# Altium footprint library TSW-103-07-T-D_X1.PcbLib: 1 footprints
Each footprint in its own frame and in the unit in brackets; x right, y up, seen from the top. Pads: shape width x height; smd on the part's side, far side on the other; paste and mask are expansions set on the pad; w line width, h text height; cw(c..) or ccw(c..) is an arc to the next point about the centre after c.
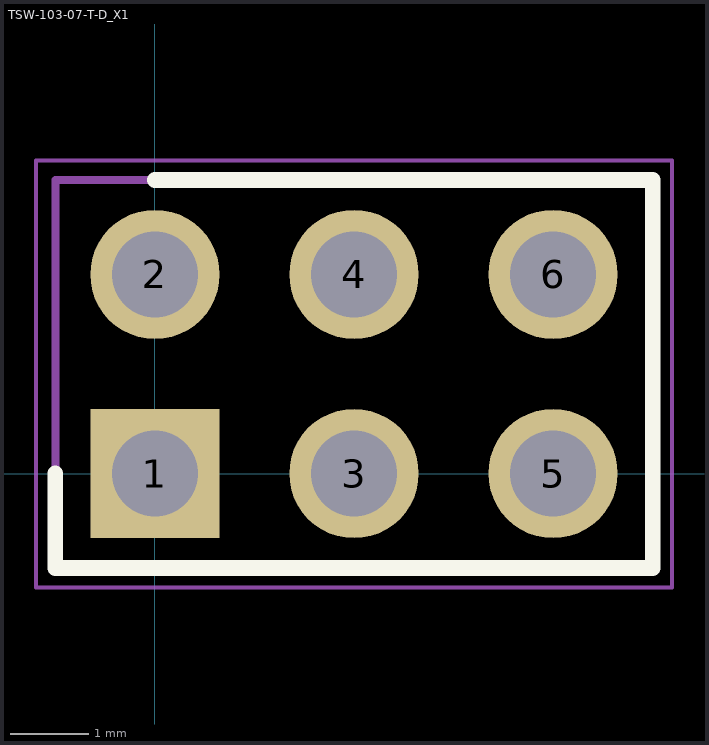
[diagram p0: the footprint, top view; thin cyan lines are the x and y axes]

## TSW-103-07-T-D_X1 [mm]
pads (6):
  rect 1.65x1.65 hole 1.1: 1(0,0)
  round 1.65 hole 1.1: 2(0,2.54) 3(2.54,0) 4(2.54,2.54) 5(5.08,0) 6(5.08,2.54)
Top Overlay:
  lines w0.2: -1.27,0 -1.27,-1.205 6.35,-1.205 6.35,3.745 0,3.745
Mechanical 13:
  lines w0.1: -1.27,-1.205 -1.27,3.745 6.35,3.745 6.35,-1.205 -1.27,-1.205
Mechanical 15:
  lines w0.05: -1.52,-1.455 -1.52,3.995 6.6,3.995 6.6,-1.455 -1.52,-1.455
3D body "TSW-103-07-T-D.stp": height 8.38, standoff -2.54, extent -1.27,-1.205 6.35,3.745